# Altium footprint library PCB11.PcbLib: 11 footprints
Each footprint in its own frame and in the unit in brackets; x right, y up, seen from the top. Pads: shape width x height; smd on the part's side, far side on the other; paste and mask are expansions set on the pad; w line width, h text height; cw(c..) or ccw(c..) is an arc to the next point about the centre after c.
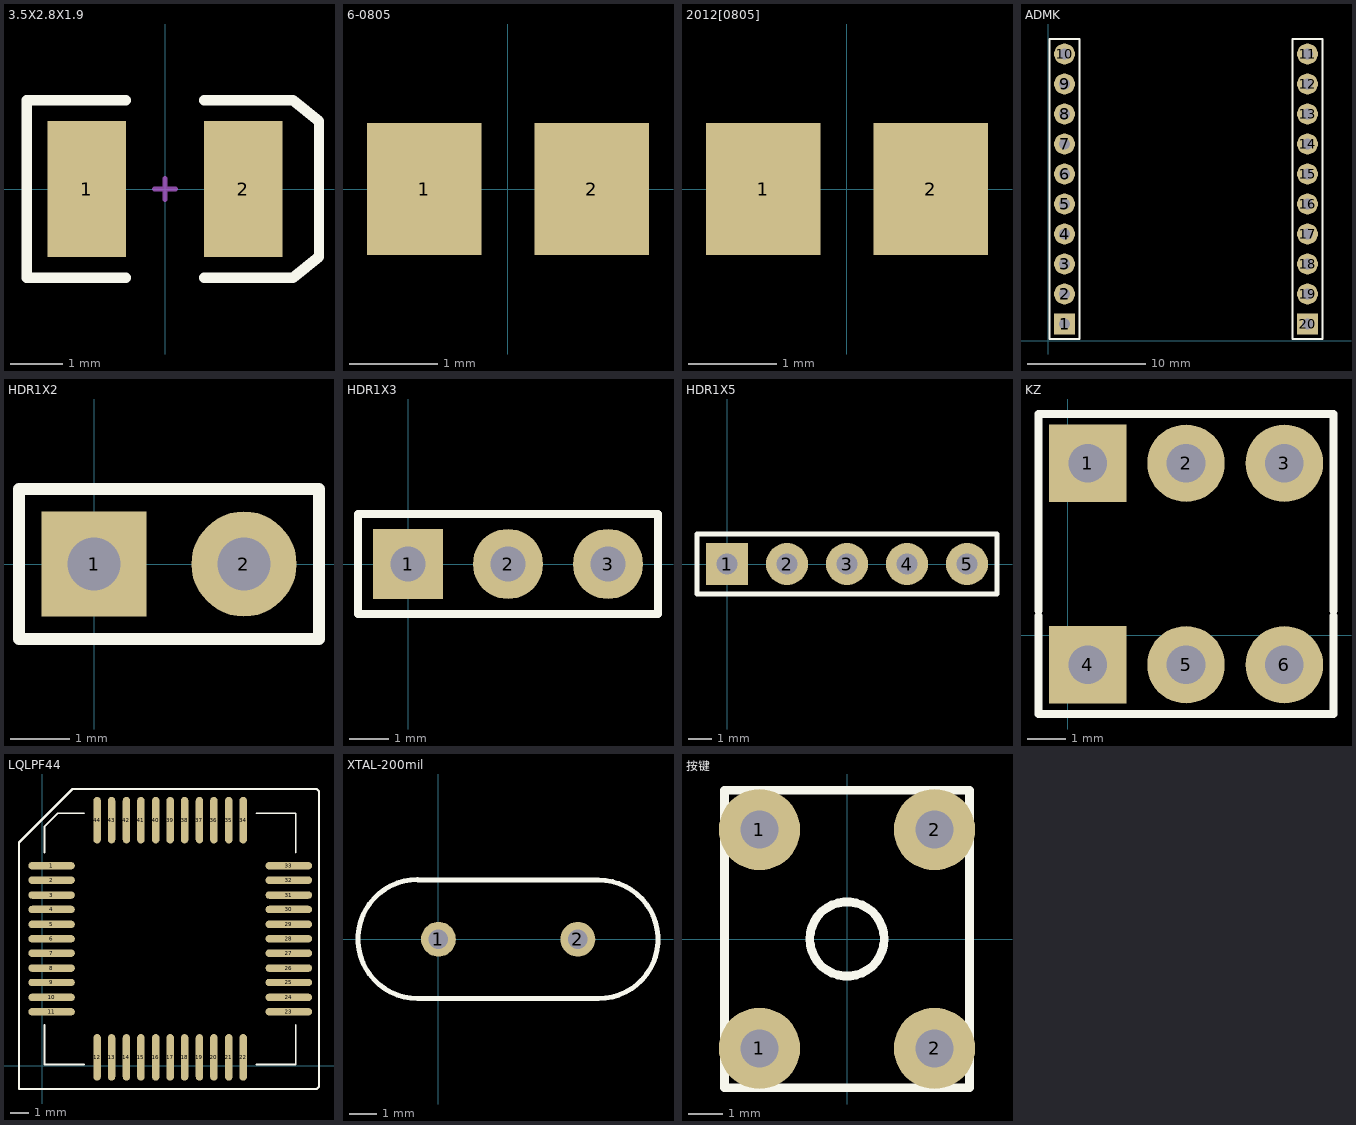
[diagram p0: the footprints below, top view; thin cyan lines are the x and y axes]

## 3.5X2.8X1.9 [mm] "SM LED; 2 C-Bend Leads; Body 3.5 x 2.8 x 1.9 mm, inc leads (LxWxH typ)"
height 1.9
pads (2):
  rect 1.5x2.6 smd: 1(-1.5,0) 2(1.5,0)
Top Overlay:
  lines w0.2: -0.75,-1.7 -2.65,-1.7 -2.65,1.7 -0.75,1.7 ; 0.75,-1.7 2.45,-1.7 2.95,-1.3 2.95,1.3 2.45,1.7 0.75,1.7
Mechanical 1:
  lines w0.1: -0.2,0 0.2,0 ; 0,-0.2 0,0.2

## 6-0805 [mm] "Chip Resistor; Body 2.0 x 1.3 mm (LxW typ)"
height 0.65
pads (2):
  rect 1.3x1.5 smd: 1(-0.95,0) 2(0.95,0)

## 2012[0805] [mm] "Chip Resistor; Body 2.0 x 1.3 mm (LxW typ)"
height 2.54
pads (2):
  rect 1.3x1.5 smd: 1(-0.95,0) 2(0.95,0)

## ADMK [mil]
pads (20):
  rect 70.06x70.06 hole 35.43: 1(55,55) 20(865,55)
  round 70.06 hole 35.43: 2(55,155) 3(55,255) 4(55,355) 5(55,455) 6(55,555) 7(55,655) 8(55,755) 9(55,855) 10(55,955) 11(865,955) 12(865,855) 13(865,755) 14(865,655) 15(865,555) 16(865,455) 17(865,355) 18(865,255) 19(865,155)
Top Layer:
  lines w10: 45,55 55,55 ; 55,45 55,55 ; 55,65 55,55 ; 65,55 60,55 55,55 ; 855,40 865,40 ; 865,30 865,40 ; 865,50 865,40 ; 895,40 865,40
Top Overlay:
  lines w7.87: 5,5 105,5 105,1005 5,1005 5,80 5,5 ; 815,5 815,80 815,1005 915,1005 915,5 815,5

## HDR1X2 [mm] "Connector; Header; 2 Position"
pads (2):
  rect 1.779x1.779 hole 0.9: 1(0,0)
  round 1.779 hole 0.9: 2(2.54,0)
Top Overlay:
  lines w0.2: -1.27,-1.27 3.81,-1.27 3.81,1.27 -1.27,1.27 -1.27,-1.27

## HDR1X3 [mm] "Connector; Header; 3 Position"
pads (3):
  rect 1.779x1.779 hole 0.9: 1(0,0)
  round 1.779 hole 0.9: 2(2.54,0) 3(5.08,0)
Top Overlay:
  lines w0.2: -1.27,-1.27 6.35,-1.27 6.35,1.27 -1.27,1.27 -1.27,-1.27

## HDR1X5 [mm] "Connector; Header; 5 Position"
pads (5):
  rect 1.779x1.779 hole 0.9: 1(0,0)
  round 1.779 hole 0.9: 2(2.54,0) 3(5.08,0) 4(7.62,0) 5(10.16,0)
Top Overlay:
  lines w0.2: -1.27,-1.27 -1.27,1.27 11.43,1.27 11.43,-1.27 -1.27,-1.27

## KZ [mm]
pads (6):
  rect 2x2 hole 1: 1(0.508,4.445) 4(0.508,-0.762)
  round 2 hole 1: 2(3.048,4.445) 3(5.588,4.445) 5(3.048,-0.762) 6(5.588,-0.762)
Top Overlay:
  lines w0.2: -0.762,0.508 -0.762,-2.032 6.858,-2.032 6.858,0.508 ; -0.762,0.635 -0.762,3.175 -0.762,5.715 6.858,5.715 6.858,3.175 6.858,0.635

## LQLPF44 [mil] "STC"
pads (44):
  oval 100x16 smd: 1(20,430) 2(20,399) 3(20,367) 4(20,336) 5(20,304) 6(20,273) 7(20,242) 8(20,210) 9(20,179) 10(20,147) 11(20,116) 23(530,116) 24(530,147) 25(530,179) 26(530,210) 27(530,242) 28(530,273) 29(530,304) 30(530,336) 31(530,367) 32(530,399) 33(530,430)
  oval 16x100 smd: 12(118,18) 13(149,18) 14(181,18) 15(212,18) 16(244,18) 17(275,18) 18(306,18) 19(338,18) 20(369,18) 21(401,18) 22(432,18) 34(432,528) 35(401,528) 36(369,528) 37(338,528) 38(306,528) 39(275,528) 40(244,528) 41(212,528) 42(181,528) 43(149,528) 44(118,528)
Top Overlay:
  lines w4: 5,88 5,3 90,3 ; 5,458 5,515 33,543 90,543 ; 460,3 545,3 545,88 ; 460,543 545,543 545,458
  lines w5: -50,-50 590,-50 595,-45 595,590 590,595 65,595 -50,480 -50,-50

## XTAL-200mil [mil]
height 135
pads (2):
  round 50 hole 28: 1(0,0) 2(200,0)
Top Overlay:
  lines w7: -30,-85 cw(c-30,0.44) -30,85.88 -29.12,85 230,85 cw(c230,0) 230,-85 -30,-85

## 按键 [mm]
height 0.254
pads (4):
  round 2.358 hole 1.1: 1(-2.54,-3.175) 1(-2.54,3.175) 2(2.54,-3.175) 2(2.54,3.175)
Top Overlay:
  circle w0.254: c0,0 r1.078
  lines w0.254: -3.556,-4.318 -3.556,4.318 3.556,4.318 3.556,-4.318 -3.556,-4.318